# Altium schematic symbol library Fuse,Cartridge,250VAC,1A,5x20mm.SchLib: 1 symbol
Pins are listed as number, name and electrical type; pins without a type are passive.

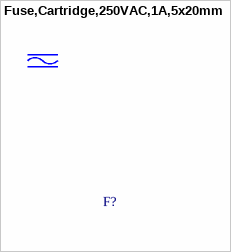
[diagram p0: symbol Fuse,Cartridge,250VAC,1A,5x20mm]

## Fuse,Cartridge,250VAC,1A,5x20mm
designator F?